# Altium footprint library DBLS207G Rectifier.PcbLib: 1 footprints
Each footprint in its own frame and in the unit in brackets; x right, y up, seen from the top. Pads: shape width x height; smd on the part's side, far side on the other; paste and mask are expansions set on the pad; w line width, h text height; cw(c..) or ccw(c..) is an arc to the next point about the centre after c.
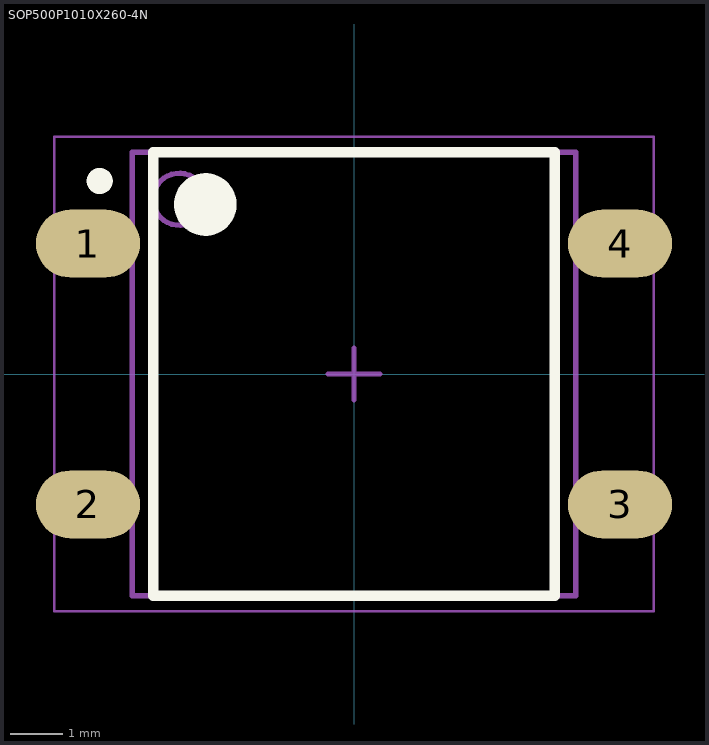
[diagram p0: the footprint, top view; thin cyan lines are the x and y axes]

## SOP500P1010X260-4N [mm] "SOP, 4-Leads, Body 8,32x8,35mm, Pitch 5,00mm, IPC Medium Density"
height 2.6
pads (4):
  oval 2x1.3 smd: 1(-5.1,2.5) 2(-5.1,-2.5) 3(5.1,-2.5) 4(5.1,2.5)
Top Overlay:
  circle w0.6: c-2.85,3.25 r0.3
  circle w0.25: c-4.875,3.7 r0.125
  lines w0.2: -3.85,-4.25 3.85,-4.25 3.85,4.25 -3.85,4.25 -3.85,-4.25
Mechanical 13:
  circle w0.1: c-3.35,3.35 r0.5
  lines w0.1: -4.25,-4.25 4.25,-4.25 4.25,4.25 -4.25,4.25 -4.25,-4.25
Mechanical 15:
  lines w0.05: -5.75,-4.55 5.75,-4.55 5.75,4.55 -5.75,4.55 -5.75,-4.55
  lines w0.1: -0.5,0 0.5,0 ; 0,-0.5 0,0.5
3D body: height 2.6, standoff 0.08, extent -4.25,-4.25 4.25,4.25